# EAGLE library part 796644-9 (library con-amp-termi-block)
TERMI-BLOCK, 5MM
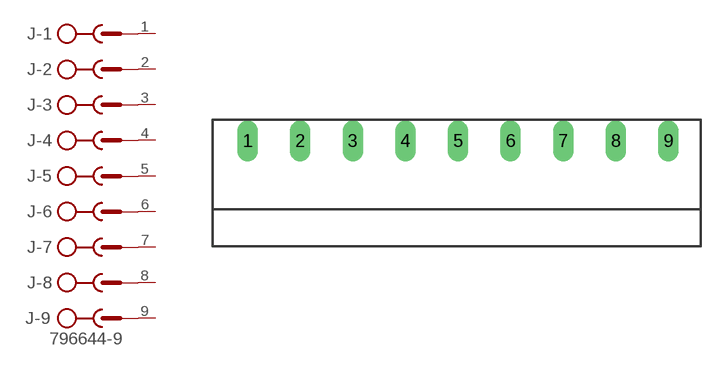
[diagram p3: symbol with the pads of 796644-9; footprint 796644-9]

Designator prefix J; gates -1=SK -2=SK -3=SK -4=SK -5=SK -6=SK -7=SK -8=SK -9=SK+V

## 796644-9  [796644-9]
1  -1:SK  pas
2  -2:SK  pas
3  -3:SK  pas
4  -4:SK  pas
5  -5:SK  pas
6  -6:SK  pas
7  -7:SK  pas
8  -8:SK  pas
9  -9:SK  pas

## Footprint 796644-9 (pad centres in mm)
Connector Right Angle pitch 5 mm
drill 1.27 pad 1.93 long: 1 -20,0; 2 -15,0; 3 -10,0; 4 -5,0; 5 0,0; 6 5,0; 7 10,0; 8 15,0; 9 20,0